# EAGLE library part ST7FLIT19BY1B6 (library ST_Microelctronics_By_element14_Batch_1)
8-BIT MCU
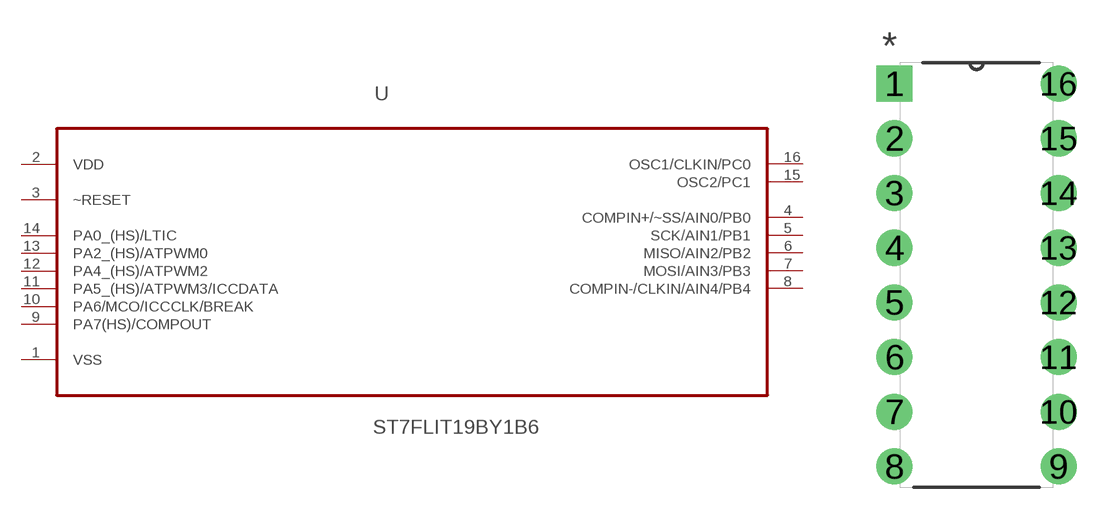
[diagram p314: symbol with the pads of DIP254P762X533-16; footprint DIP254P762X533-16]

Designator prefix U

## ST7FLIT19BY1B6 (MPN: ST7FLIT19BY1B6; OC_FARNELL: 1287283; OC_NEWARK: 57P2990; PACKAGE: DIP-16; SUPPLIER: STMICROELECTRONICS)  [DIP254P762X533-16]
1  VSS  pas
2  VDD  pwr
3  ~RESET
4  COMPIN+/~SS/AIN0/PB0
5  SCK/AIN1/PB1
6  MISO/AIN2/PB2
7  MOSI/AIN3/PB3
8  COMPIN-/CLKIN/AIN4/PB4
9  PA7(HS)/COMPOUT
10  PA6/MCO/ICCCLK/BREAK
11  PA5_(HS)/ATPWM3/ICCDATA
12  PA4_(HS)/ATPWM2
13  PA2_(HS)/ATPWM0
14  PA0_(HS)/LTIC
15  OSC2/PC1
16  OSC1/CLKIN/PC0

## Footprint DIP254P762X533-16 (pad centres in mm)
drill 1.118 square: 1 -7.62,17.78
drill 1.118: 2 -7.62,15.24; 3 -7.62,12.7; 4 -7.62,10.16; 5 -7.62,7.62; 6 -7.62,5.08; 7 -7.62,2.54; 8 -7.62,0; 9 0,0; 10 0,2.54; 11 0,5.08; 12 0,7.62; 13 0,10.16; 14 0,12.7; 15 0,15.24; 16 0,17.78